# Altium integrated library resistor-net.IntLib: 19 symbols
Pins are listed as number, name and electrical type; pins without a type are passive.

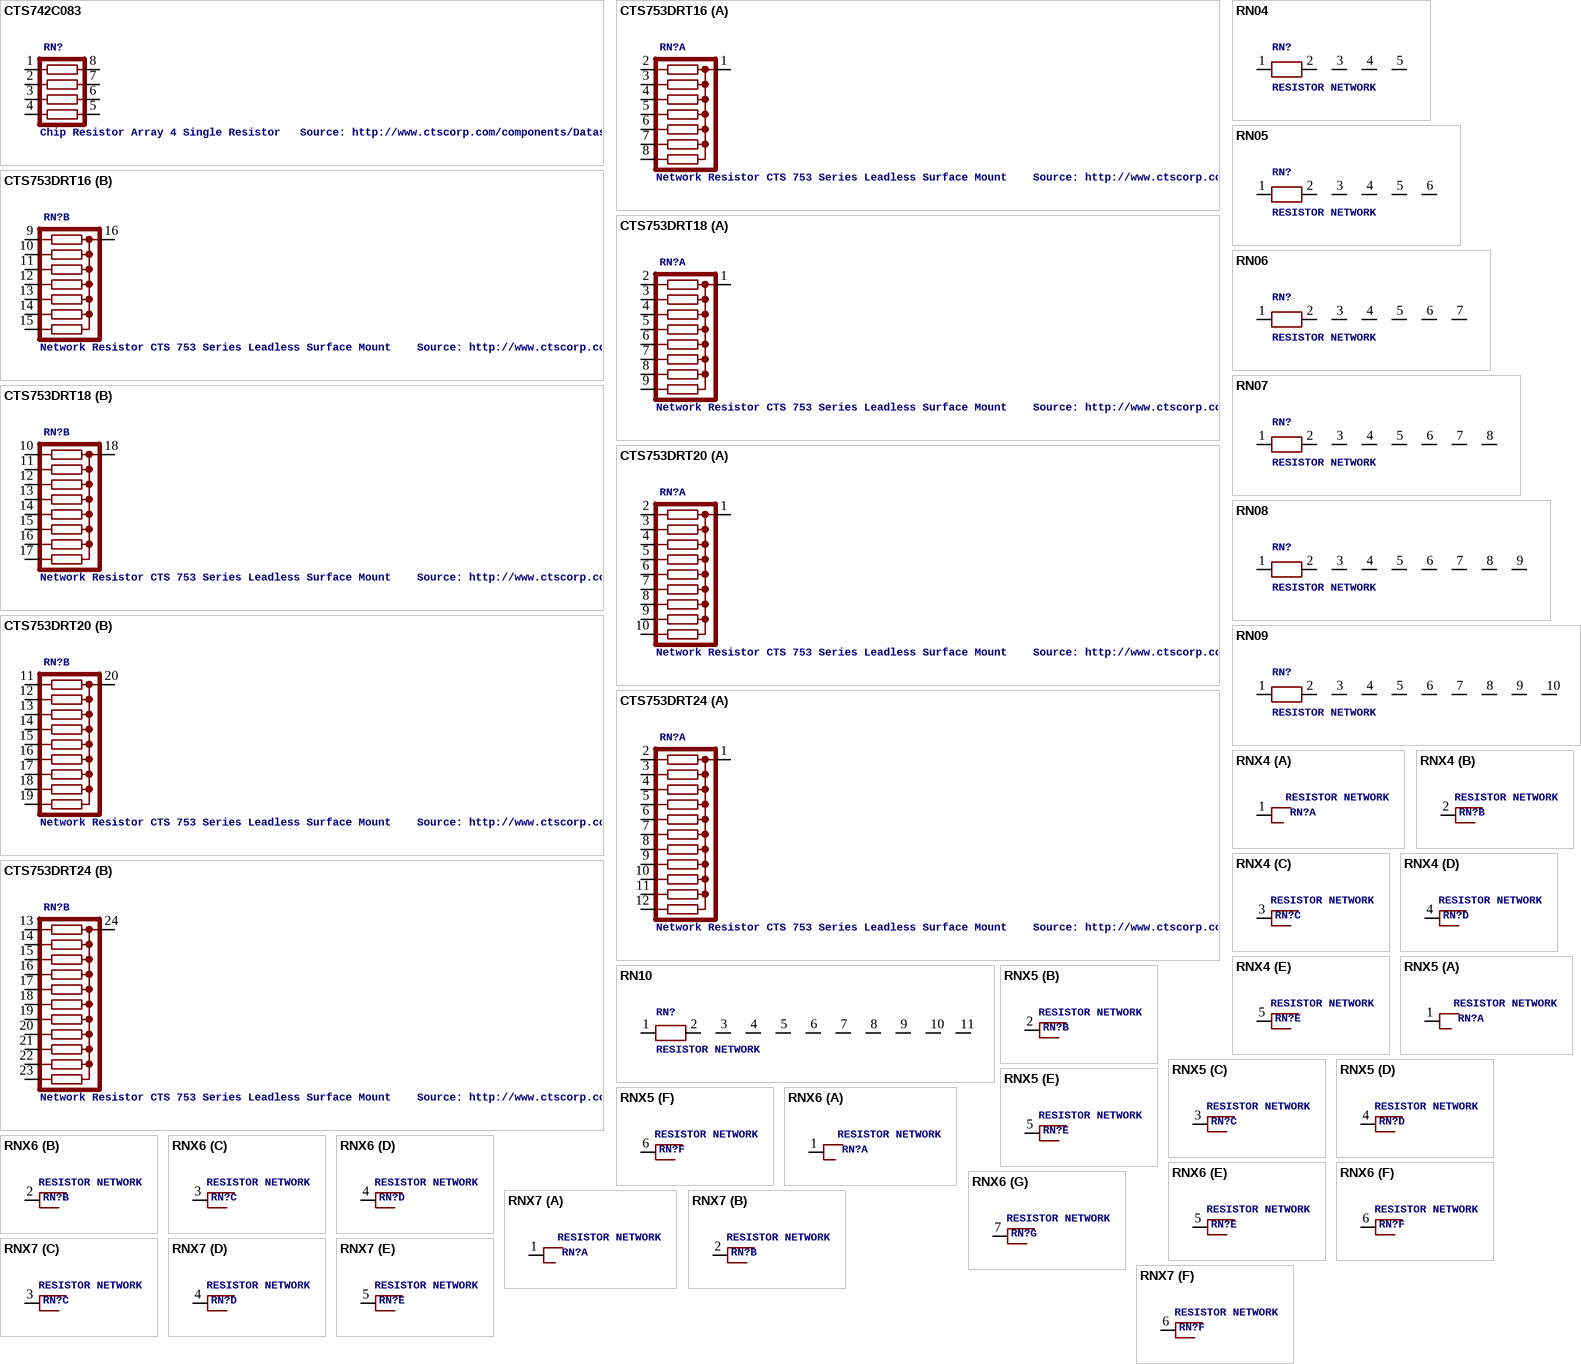
[diagram p0: symbols CTS742C083 to RNX7]

## CTS742C083
designator RN?, comment Chip Resistor Array 4 Single Resistor   Source: http://www.ctscorp.com/components/Datasheets/CTSChipArrayDs.pdf
OC_FARNELL: unknown; OC_NEWARK: unknown
footprint CTS742C083
pins: 1, 2, 3, 4, 5, 6, 7, 8

## CTS753DRT16
designator RN?, comment Network Resistor CTS 753 Series Leadless Surface Mount    Source: http://www.ctscorp.com/components/Datasheets/753.pdf Distributor: Digi Key
OC_FARNELL: unknown; OC_NEWARK: unknown
footprint CTS753DRT16
part A pins: 1 C, 2 1, 3 2, 4 3, 5 4, 6 5, 7 6, 8 7
part B pins: 9 1, 10 2, 11 3, 12 4, 13 5, 14 6, 15 7, 16 C

## CTS753DRT18
designator RN?, comment Network Resistor CTS 753 Series Leadless Surface Mount    Source: http://www.ctscorp.com/components/Datasheets/753.pdf Distributor: Digi Key
OC_FARNELL: unknown; OC_NEWARK: unknown
footprint CTS753DRT18
part A pins: 1 C, 2 1, 3 2, 4 3, 5 4, 6 5, 7 6, 8 7, 9 8
part B pins: 10 1, 11 2, 12 3, 13 4, 14 5, 15 6, 16 7, 17 8, 18 C

## CTS753DRT20
designator RN?, comment Network Resistor CTS 753 Series Leadless Surface Mount    Source: http://www.ctscorp.com/components/Datasheets/753.pdf Distributor: Digi Key
OC_FARNELL: unknown; OC_NEWARK: unknown
footprint CTS753DRT20
part A pins: 1 C, 2 1, 3 2, 4 3, 5 4, 6 5, 7 6, 8 7, 9 8, 10 9
part B pins: 11 1, 12 2, 13 3, 14 4, 15 5, 16 6, 17 7, 18 8, 19 9, 20 C

## CTS753DRT24
designator RN?, comment Network Resistor CTS 753 Series Leadless Surface Mount    Source: http://www.ctscorp.com/components/Datasheets/753.pdf Distributor: Digi Key
OC_FARNELL: unknown; OC_NEWARK: unknown
footprint CTS753DRT24
part A pins: 1 C, 2 1, 3 2, 4 3, 5 4, 6 5, 7 6, 8 7, 9 8, 10 9, 11 10, 12 11
part B pins: 13 1, 14 2, 15 3, 16 4, 17 5, 18 6, 19 7, 20 8, 21 9, 22 10, 23 11, 24 C

## RN04
designator RN?, comment RESISTOR NETWORK
OC_FARNELL: unknown; OC_NEWARK: unknown
footprint RN-5
pins: 1, 2, 3, 4, 5

## RN05
designator RN?, comment RESISTOR NETWORK
OC_FARNELL: unknown; OC_NEWARK: unknown
footprint RN-6
pins: 1, 2, 3, 4, 5, 6

## RN06
designator RN?, comment RESISTOR NETWORK
OC_FARNELL: unknown; OC_NEWARK: unknown
footprint RN-7
pins: 1, 2, 3, 4, 5, 6, 7

## RN07
designator RN?, comment RESISTOR NETWORK
OC_FARNELL: unknown; OC_NEWARK: unknown
footprint RN-8
pins: 1, 2, 3, 4, 5, 6, 7, 8

## RN08
designator RN?, comment RESISTOR NETWORK
OC_FARNELL: unknown; OC_NEWARK: unknown
footprint RN-9
pins: 1, 2, 3, 4, 5, 6, 7, 8, 9

## RN09
designator RN?, comment RESISTOR NETWORK
OC_FARNELL: unknown; OC_NEWARK: unknown
footprint RN-10
pins: 1, 2, 3, 4, 5, 6, 7, 8, 9, 10

## RN10
designator RN?, comment RESISTOR NETWORK
OC_FARNELL: unknown; OC_NEWARK: unknown
footprint RN-11
pins: 1, 2, 3, 4, 5, 6, 7, 8, 9, 10, 11

## RNX4
designator RN?, comment RESISTOR NETWORK
OC_FARNELL: unknown; OC_NEWARK: unknown
footprint RN-5
part A pins: 1
part B pins: 2 1
part C pins: 3 1
part D pins: 4 1
part E pins: 5 1

## RNX5
designator RN?, comment RESISTOR NETWORK
OC_FARNELL: unknown; OC_NEWARK: unknown
footprint RN-6
part A pins: 1
part B pins: 2 1
part C pins: 3 1
part D pins: 4 1
part E pins: 5 1
part F pins: 6 1

## RNX6
designator RN?, comment RESISTOR NETWORK
OC_FARNELL: unknown; OC_NEWARK: unknown
footprint RN-7
part A pins: 1
part B pins: 2 1
part C pins: 3 1
part D pins: 4 1
part E pins: 5 1
part F pins: 6 1
part G pins: 7 1

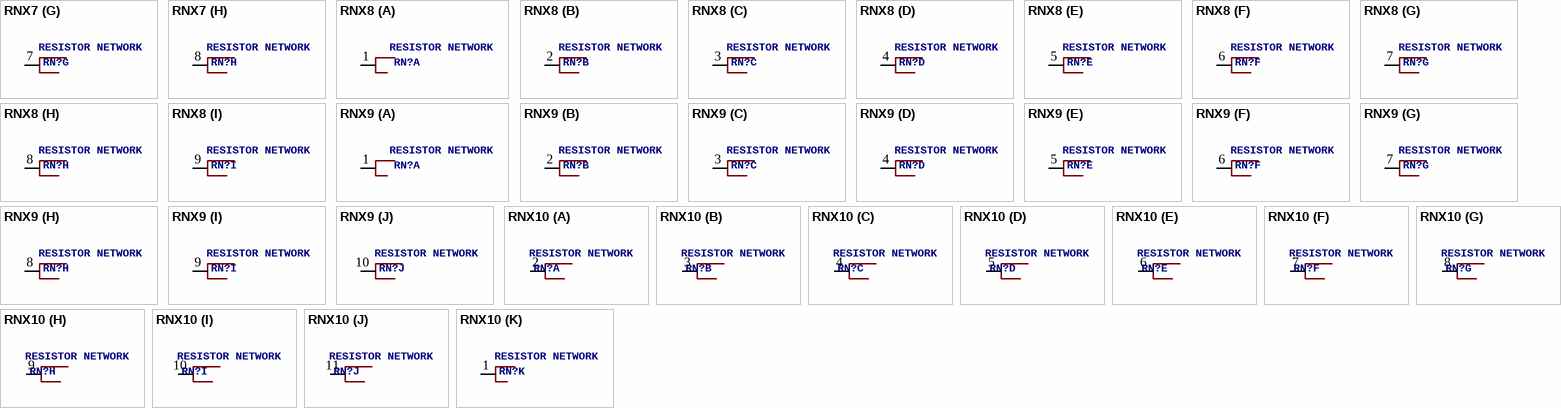
[diagram p1: symbols RNX7 to RNX10]

## RNX7
designator RN?, comment RESISTOR NETWORK
OC_FARNELL: unknown; OC_NEWARK: unknown
footprint RN-8
part A pins: 1
part B pins: 2 1
part C pins: 3 1
part D pins: 4 1
part E pins: 5 1
part F pins: 6 1
part G pins: 7 1
part H pins: 8 1

## RNX8
designator RN?, comment RESISTOR NETWORK
OC_FARNELL: unknown; OC_NEWARK: unknown
footprint RN-9
part A pins: 1
part B pins: 2 1
part C pins: 3 1
part D pins: 4 1
part E pins: 5 1
part F pins: 6 1
part G pins: 7 1
part H pins: 8 1
part I pins: 9 1

## RNX9
designator RN?, comment RESISTOR NETWORK
OC_FARNELL: unknown; OC_NEWARK: unknown
footprint RN-10
part A pins: 1
part B pins: 2 1
part C pins: 3 1
part D pins: 4 1
part E pins: 5 1
part F pins: 6 1
part G pins: 7 1
part H pins: 8 1
part I pins: 9 1
part J pins: 10 1

## RNX10
designator RN?, comment RESISTOR NETWORK
OC_FARNELL: unknown; OC_NEWARK: unknown
footprint RN-11
part A pins: 2 1
part B pins: 3 1
part C pins: 4 1
part D pins: 5 1
part E pins: 6 1
part F pins: 7 1
part G pins: 8 1
part H pins: 9 1
part I pins: 10 1
part J pins: 11 1
part K pins: 1